# Altium integrated library WE-VEA ESD Suppressor-Array.IntLib: 2 symbols
Pins are listed as number, name and electrical type; pins without a type are passive.

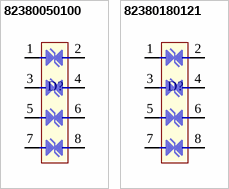
[diagram p0: symbols 82380050100 to 82380180121]

## 82380050100
designator D?
ESD Suppressor WE-VEA-ESD, VDC=5.0V; PartNumber: 82380050100; Reverse Stand Off Voltage: 5.0V; PackageReference: 0508; ComponentLink1Description: Manufacturer URL; ComponentLink1URL: http://www.we-online.com; ComponentLink2Description: Datasheet; ComponentLink2URL: http://katalog.we-online.de/kataloge/eisos/media/pdf/82380050100.pdf
footprint 0508 (0508, 8-Leads, Body 2.10x2.10mm, Pitch 0.50mm)
pins: 1 I/O1, 2 I/O1, 3 I/O2, 4 I/O2, 5 I/O3, 6 I/O3, 7 I/O4, 8 I/O4

## 82380180121
designator D?
ESD Suppressor WE-VEA-ESD, VDC=18.0V; PartNumber: 82380180121; Reverse Stand Off Voltage: 18.0V; PackageReference: 0612; ComponentLink1Description: Manufacturer URL; ComponentLink1URL: http://www.we-online.com; ComponentLink2Description: Datasheet; ComponentLink2URL: http://katalog.we-online.de/kataloge/eisos/media/pdf/82380180121.pdf
footprint 0612 (0612, 8-Leads, Body 3.2x2.60mm, Pitch 0.80mm)
pins: 1 I/O1, 2 I/O1, 3 I/O2, 4 I/O2, 5 I/O3, 6 I/O3, 7 I/O4, 8 I/O4